# EAGLE library part 70543-08 (library con-molex-c-grid)
C-Grid SL
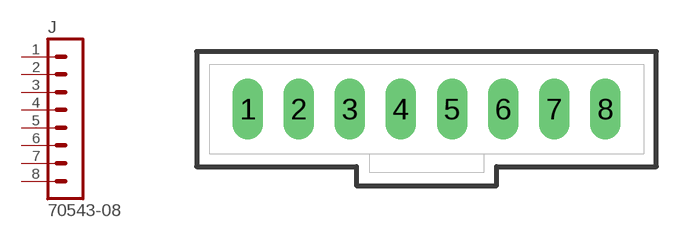
[diagram p2: symbol with the pads of 70543-08; footprint 70543-08]

Designator prefix J

## 70543-08  [70543-08]
1  1  pas
2  2  pas
3  3  pas
4  4  pas
5  5  pas
6  6  pas
7  7  pas
8  8  pas

## Footprint 70543-08 (pad centres in mm)
C-Grid SL vertical
drill 1.016 long: 1 -8.89,0; 2 -6.35,0; 3 -3.81,0; 4 -1.27,0; 5 1.27,0; 6 3.81,0; 7 6.35,0; 8 8.89,0